# Altium schematic symbol library kmetria.SchLib: 9 symbols
Pins are listed as number, name and electrical type; pins without a type are passive.

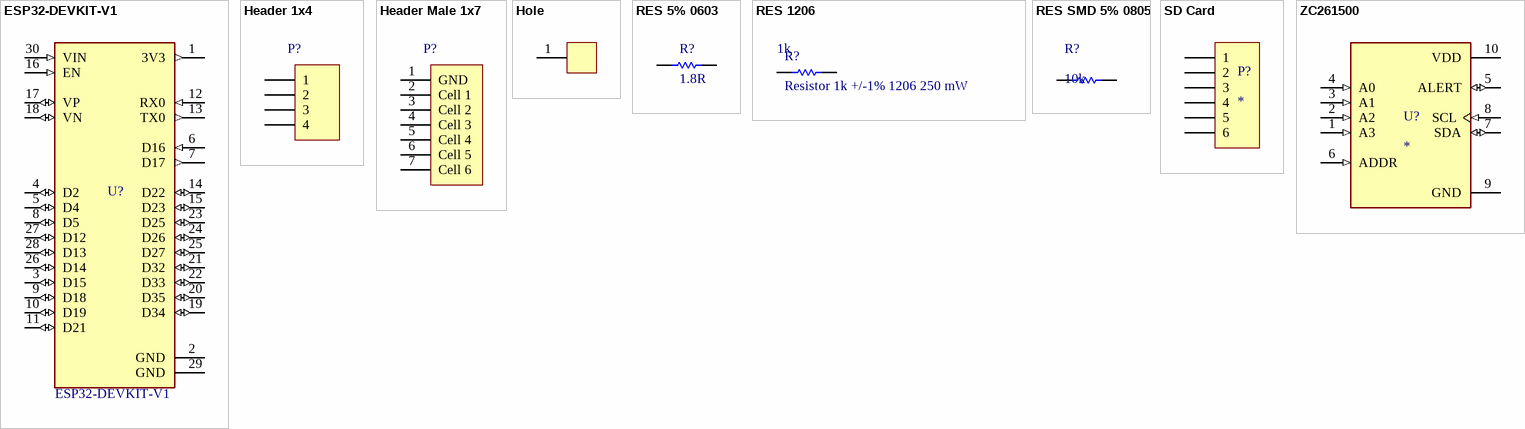
[diagram p0: symbols ESP32-DEVKIT-V1 to ZC261500]

## ESP32-DEVKIT-V1
designator U?  (value not drawn)
Dual core, Wi-Fi: 2.4 GHz up to 150 Mbits/s,BLE (Bluetooth Low Energy) and legacy Bluetooth, 32 bits, Up to 240 MHz; MF: Do it; SnapEDA_Link: https://www.snapeda.com/parts/ESP32-DEVKIT-V1/Do+it/view-part/?ref=snap; Package: None; Value: *; MP: ESP32-DEVKIT-V1; Check_prices: https://www.snapeda.com/parts/ESP32-DEVKIT-V1/Do+it/view-part/?ref=eda
footprint MODULE_ESP32_DEVKIT_V1
pins: 1 3V3 (out), 2 GND (power), 3 D15 (io), 4 D2 (io), 5 D4 (io), 6 D16 (in), 7 D17 (out), 8 D5 (io), 9 D18 (io), 10 D19 (io), 11 D21 (io), 12 RX0 (in), 13 TX0 (out), 14 D22 (io), 15 D23 (io), 16 EN (in), 17 VP (io), 18 VN (io), 19 D34 (io), 20 D35 (io), 21 D32 (io), 22 D33 (io), 23 D25 (io), 24 D26 (io), 25 D27 (io), 26 D14 (io), 27 D12 (io), 28 D13 (io), 29 GND (power), 30 VIN (in)

## Header 1x4
designator P?  (value not drawn)
Headers & Wire Housings 40Pin 2mm Spacing Single Row Hdrs, 5pc; Manufacturer: Cromax; Manufacturer Part Number: IMP10327; Mounting Angle: Vertical; Number of Positions: 40 Position; Supplier 1: Mult Comercial; RoHS: RoHS Compliant; Category: Headers & Wire Housings; Stock 1: 14; Pricing 1: 1=1.00, 5=0.20 (BRL); Accessory Type: -; Contact Plating: Gold; Contact Type: -; Number of Rows: 1 Row; Product: Headers; Termination Style: Through Hole; Type: Breakaway; Brand: Cromax; Mounting Style: Straight Pin; Pitch: 2 mm; Row Spacing: -; Contact Gender: Pin (Male); Product Category: Accessories; RoHS - Mouser: Y; Minimum Order Quantity: 1; Reeling: False; ComponentLink1URL: http://loja.multcomercial.com.br/barra-de-pinos-simples-1x40-macho-bmo40-1e.html; ComponentLink1Description: http://loja.multcomercial.com.br/barra-de-pinos-simples-1x40-macho-bmo40-1e.html; Supplier Part Number 1: Barra de Pinos Simples 1x40 Macho BMO40-1E
footprint HDR MALE 1x4 (PinHeader 1x4 TH Pitch 2.54mm)
pins: 1, 2, 3 (power), 4 (power)

## Header Male 1x7
designator P?  (value not drawn)
Headers & Wire Housings 40Pin 2mm Spacing Single Row Hdrs, 5pc; Manufacturer: Cromax; Manufacturer Part Number: IMP10327; Mounting Angle: Vertical; Number of Positions: 40 Position; Supplier 1: Mult Comercial; RoHS: RoHS Compliant; Category: Headers & Wire Housings; Stock 1: 14; Pricing 1: 1=1.00, 5=0.20 (BRL); Accessory Type: -; Contact Plating: Gold; Contact Type: -; Number of Rows: 1 Row; Product: Headers; Termination Style: Through Hole; Type: Breakaway; Brand: Cromax; Mounting Style: Straight Pin; Pitch: 2 mm; Row Spacing: -; Contact Gender: Pin (Male); Product Category: Accessories; RoHS - Mouser: Y; Minimum Order Quantity: 1; Reeling: False; ComponentLink1URL: http://loja.multcomercial.com.br/barra-de-pinos-simples-1x40-macho-bmo40-1e.html; ComponentLink1Description: http://loja.multcomercial.com.br/barra-de-pinos-simples-1x40-macho-bmo40-1e.html; Supplier Part Number 1: Barra de Pinos Simples 1x40 Macho BMO40-1E
footprint HDR MALE 1x7 (PinHeader 1x7 TH Pitch 2.54mm)
pins: 1 GND, 2 Cell 1, 3 Cell 2, 4 Cell 3 (power), 5 Cell 4 (power), 6 Cell 5 (power), 7 Cell 6 (power)

## Hole
designator H?  (value not drawn)
General Purpose hole
footprint Hole 1x1 (Generic Hole)
pins: 1

## RES 5% 0603
designator R?, comment 1.8R
Thick Film Resistors - SMD 0603 5%; Manufacturer: Yageo; Manufacturer Part Number: RC0603JR-071R8L; Power Rating: 100 mW; Resistance: 1.8 Ohms; Temperature Coefficient: 200 PPM / C; Voltage Rating: 75 V; Supplier 1: Mouser; RoHS: RoHS Compliant; Category: Thick Film Resistors - SMD; Stock 1: 37637; Pricing 1: 1=0.100, 10=0.008, 100=0.003, 1000=0.002, 5000=0.002, 50000=0.001 (USD); Height: 0.45 mm; Length: 1.6 mm; Operating Temperature Range: - 55 C to + 155 C; Package / Case: 0603 (1608 metric); Packaging: Reel; Product: Thick Film Resistors General Purpose; Series: RC; Termination Style: SMD/SMT; Tolerance: 5 %; Type: General Purpose Chip Resistor Surface Mount; Width: 0.8 mm; Brand: Yageo; Case Code - in: 0603; Case Code - mm: 1608; Standard Pack Qty: 5000; RoHS - Mouser: Y; Minimum Order Quantity: 1; Reeling: True; ComponentLink1URL: http://www.mouser.com/ds/2/447/RC0603-272842.pdf; ComponentLink1Description: http://www.mouser.com/ds/2/447/RC0603-272842.pdf; Supplier Part Number 1: 603-RC0603JR-071R8L
footprint RESISTOR 0805 (Chip Resistor, 2-Leads, Body 2,00x1,25mm, IPC Low Density)
pins: 1, 2

## RES 1206
designator R?, comment Resistor 1k +/-1% 1206 250 mW  value 1k
Chip Resistor, 1 KOhm, +/- 1%, 0.25 W, -55 to 155 degC, 1206 (3216 Metric)
footprint RESISTOR 0805 (Chip Resistor, 2-Leads, Body 2,00x1,25mm, IPC Low Density)
pins: 1, 2

## RES SMD 5% 0805
designator R?, comment 10k
RES SMD 5% 0805; Category: Resistors; Resistance (Ohms): 10k; Tolerance: ±5%; Supplier Device Package: 0805
footprint RESISTOR 0805 (Chip Resistor, 2-Leads, Body 2,00x1,25mm, IPC Low Density)
pins: 1, 2

## SD Card
designator P?
Headers & Wire Housings 36Pin 2mm Spacing Single Row Hdrs, 5pc; Manufacturer: Molex, LLC; Manufacturer Part Number: 0022284360; Connector Type: Header, Unshrouded, Breakaway; Number of Positions: 36; Number of Positions Loaded: All; Pitch: 0.100" (2.54mm); Supplier 1: Digi-Key; RoHS: RoHS Compliant; Category: Connectors, Interconnects; Stock 1: 9595; Pricing 1: 1=0.98, 10=0.858, 25=0.808, 50=0.7742, 100=0.7405, 250=0.6732, 500=0.60588 (USD); Packaging: Bulk; Contact Type: Male Pin; Number of Rows: 1; Row Spacing: -; Contact Mating Length: 0.240" (6.10mm); Mounting Type: Through Hole; Termination: Solder; Fastening Type: -; Features: -; Contact Finish: Tin; Contact Finish Thickness: 100µin (2.54µm); Color: Black; ComponentLink1URL: http://www.molex.com/pdm_docs/sd/022284360_sd.pdf; ComponentLink1Description: http://www.molex.com/pdm_docs/sd/022284360_sd.pdf; Supplier Part Number 1: WM50014-36-ND
footprint HDR1X6
pins: 1, 2, 3, 4, 5, 6

## ZC261500
designator U?
ADS1115 Module ADC 4 channel with Pro Gain Amplifier for Arduino RPi; MP: ZC261500; MF: YKS; Value: *; SnapEDA_Link: https://www.snapeda.com/parts/ZC261500/YKS/view-part/621058/?ref=snap; Availability: Unavailable; Price: None; Package: None
footprint MODULE_ZC261500
pins: 1 A3 (in), 2 A2 (in), 3 A1 (in), 4 A0 (in), 5 ALERT (io), 6 ADDR (in), 7 SDA (io), 8 SCL (in), 9 GND (power), 10 VDD (power)